# Altium integrated library XT60PW-F.IntLib: 1 symbol
Pins are listed as number, name and electrical type; pins without a type are passive.

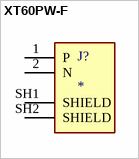
[diagram p0: symbol XT60PW-F]

## XT60PW-F
designator J?
Connector: DC supply; socket; female; XT60; 30A; 500V; PIN: 2; THT; MF: AMASS; MP: XT60PW-F; SnapEDA_Link: https://www.snapeda.com/parts/XT60PW-F/AMASS/view-part/?ref=snap; Package: Package; Value: *; Check_prices: https://www.snapeda.com/parts/XT60PW-F/AMASS/view-part/?ref=eda
footprint AMASS_XT60PW-F
pins: 1 P, 2 N, SH1 SHIELD, SH2 SHIELD